# EAGLE library part INVERTER_74HC04_SOCKET (library Chao)
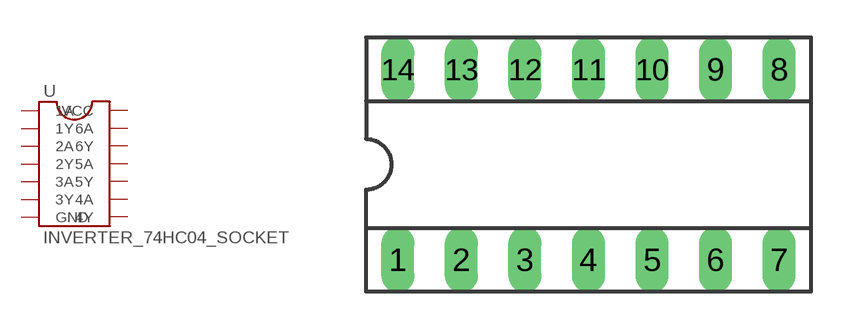
[diagram p3: symbol with the pads of 14PIN_IC_SOCKET; footprint 14PIN_IC_SOCKET]

Designator prefix -

## INVERTER_74HC04_SOCKET  [14PIN_IC_SOCKET]
1  1A  pas
2  1Y  out
3  2A  pas
4  2Y  out
5  3A  pas
6  3Y  out
7  GND  pas
8  4Y  out
9  4A  pas
10  5Y  out
11  5A  pas
12  6Y  out
13  6A  pas
14  VCC  pwr

## Footprint 14PIN_IC_SOCKET (pad centres in mm)
drill 0.813 long: 1 -6.35,-3.81; 2 -3.81,-3.81; 3 -1.27,-3.81; 4 1.27,-3.81; 5 3.81,-3.81; 6 6.35,-3.81; 7 8.89,-3.81; 8 8.89,3.81; 9 6.35,3.81; 10 3.81,3.81; 11 1.27,3.81; 12 -1.27,3.81; 13 -3.81,3.81; 14 -6.35,3.81